# Altium footprint library MLACHQ_S.PCBLIB: 155 footprints (part 8 of 10)
Each footprint in its own frame and in the unit in brackets; x right, y up, seen from the top. Pads: shape width x height; smd on the part's side, far side on the other; paste and mask are expansions set on the pad; w line width, h text height; cw(c..) or ccw(c..) is an arc to the next point about the centre after c.
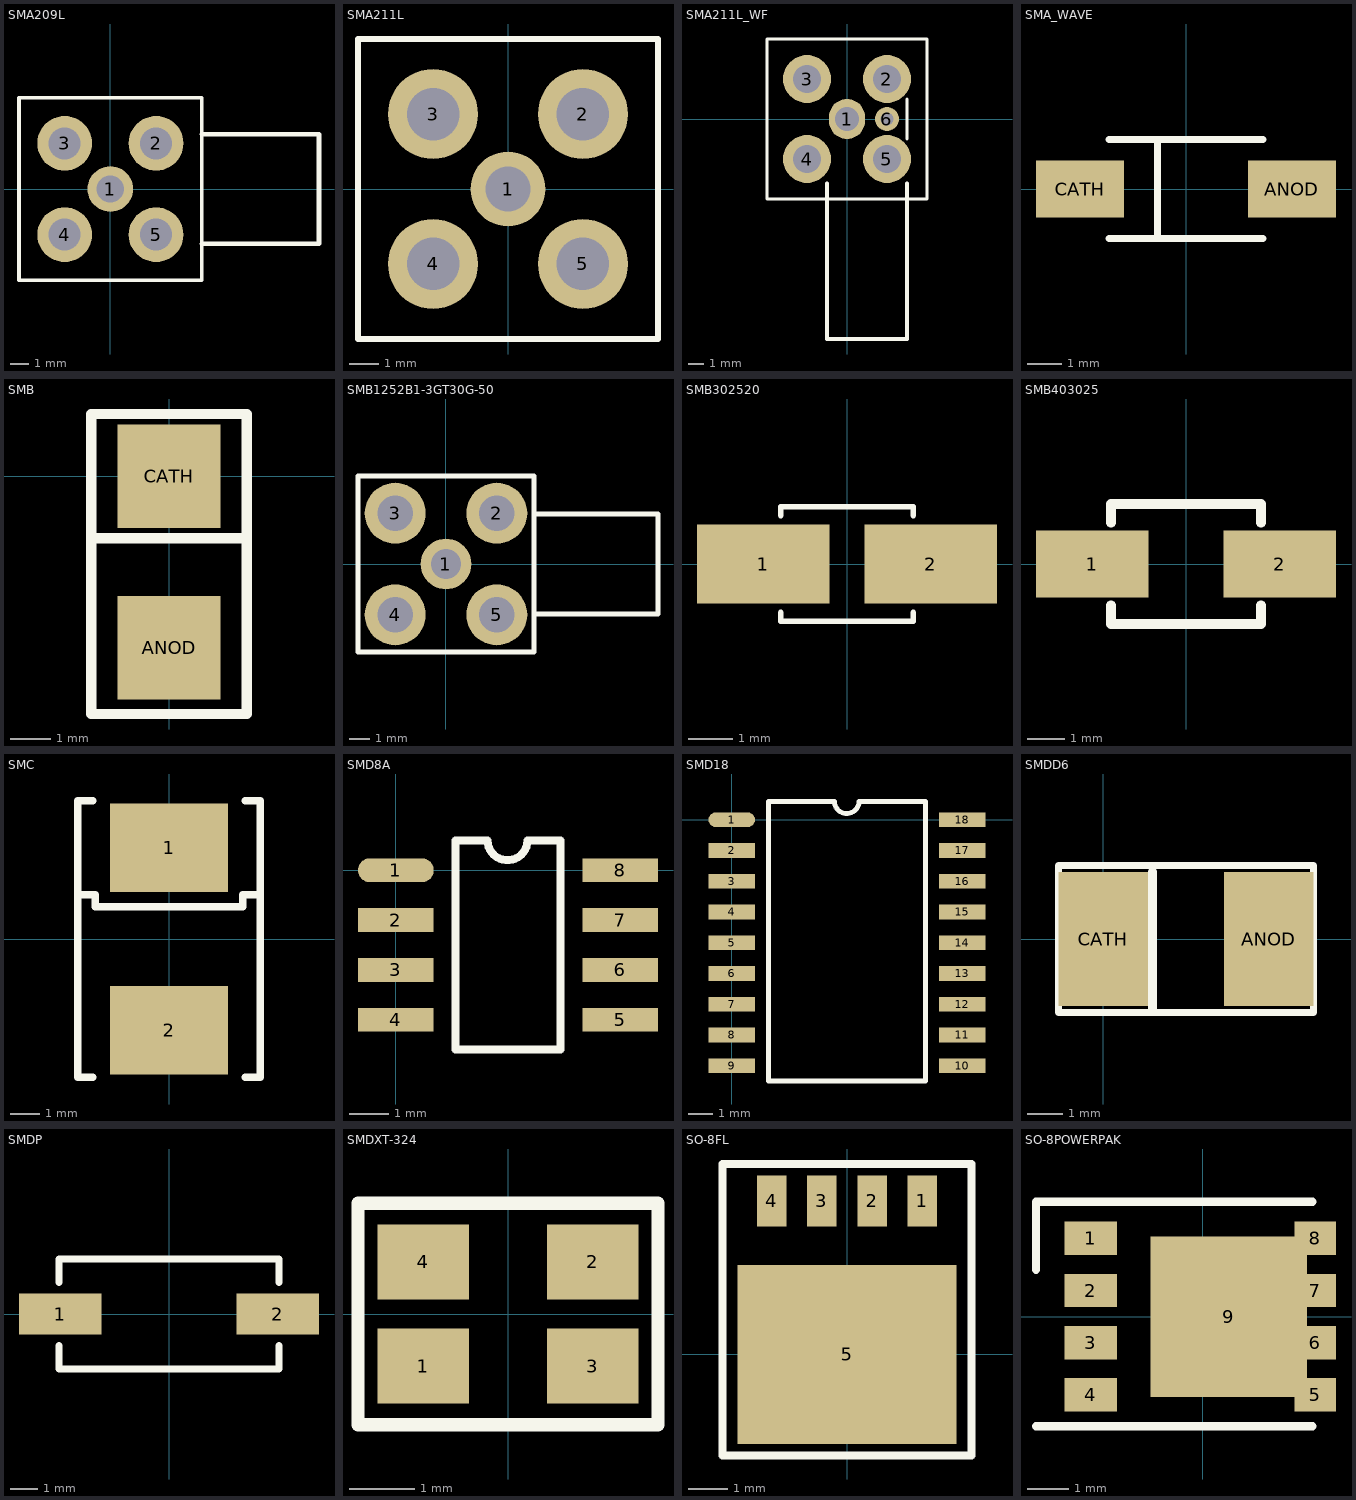
[diagram p7: the footprints below, top view; thin cyan lines are the x and y axes]

## SMA209L [mil]
pads (5):
  round 100 hole 60: 1(0,0)
  round 120 hole 70: 2(100,100) 3(-100,100) 4(-100,-100) 5(100,-100)
TopOverlay:
  lines w8: -200,-200 -200,200 200,200 200,-200 -200,-200
  lines w10: 200,-120 456.69,-120 456.69,120 200,120

## SMA211L [mil]
pads (5):
  round 100 hole 60: 1(0,0)
  round 120 hole 70: 2(100,100) 3(-100,100) 4(-100,-100) 5(100,-100)
TopOverlay:
  lines w8: -200,-200 -200,200 200,200 200,-200 -200,-200

## SMA211L_WF [mil]
pads (6):
  oval 90x100 hole 60: 1(0,0)
  round 120 hole 70: 2(100,100) 3(-100,100) 4(-100,-100) 5(100,-100)
  round 60 hole 32: 6(100,0)
TopOverlay:
  lines w8: 150,-50 150,50 ; -200,-200 200,-200 200,200 -200,200 -200,-200
  lines w10: -50,-161.42 -50,-550 149.61,-550 149.61,-161.42

## SMA_WAVE [mil]
pads (2):
  rect 100x65 smd: ANOD(120,0) CATH(-120,0)
TopOverlay:
  lines w8: -87.5,-56 87.5,-56 ; -87.5,56 87.5,56 ; -32.5,-56 -32.5,56
3D body: height 60.63, standoff 3.94, extent -100,-17 -86,17
3D body: height 60.63, standoff 3.94, extent 86,-17 100,17
3D body: height 100, standoff 3.94, extent -92,-56 92,56
3D body: height 100.39, standoff 3.94, extent -71.57,-55 -50.43,55

## SMB [mil]
pads (2):
  rect 100x100 smd: ANOD(0,-166) CATH(0,0)
TopOverlay:
  lines w10: -75,-60 75,-60 ; -75,-230 -75,60 75,60 75,-230 -75,-230
3D body: height 96.46, standoff 1.09, extent -76.77,-185.04 76.77,31.5

## SMB1252B1-3GT30G-50 [mil]
pads (5):
  round 100 hole 60: 1(0,0)
  round 120 hole 70: 2(100,100) 3(-100,100) 4(-100,-100) 5(100,-100)
TopOverlay:
  lines w9.84: 173.23,-98.43 417.32,-98.43 417.32,98.43 173.23,98.43 ; -173.23,-173.23 173.23,-173.23 173.23,173.23 -173.23,173.23 -173.23,-173.23
3D body: height 316.55, standoff 120.47, extent 0,-98.43 417.32,98.04
3D body: height 393.7, standoff 0, extent -137.8,-137.8 137.8,137.8

## SMB302520 [mm]
height 2
pads (2):
  rect 3x1.8 smd: 1(-1.9,0) 2(1.9,0)
TopOverlay:
  lines w0.127: -1.5,-1.1 -1.5,-1.3 1.5,-1.3 1.5,-1.1 ; -1.5,1.1 -1.5,1.3 1.5,1.3 1.5,1.1

## SMB403025 [mm]
pads (2):
  rect 3x1.8 smd: 1(-2.5,0) 2(2.5,0)
TopOverlay:
  lines w0.254: -2,-1.1 -2,-1.6 2,-1.6 2,-1.1 ; -2,1.1 -2,1.6 2,1.6 2,1.1

## SMC [mm]
pads (2):
  rect 4x3 smd: 1(0,3.1) 2(0,-3.1)
TopOverlay:
  lines w0.254: -3.1,1.5 -2.5,1.5 -2.5,1.1 2.5,1.1 2.5,1.5 3.1,1.5 ; -2.6,-4.7 -3.1,-4.7 -3.1,4.7 -2.6,4.7 ; 2.6,-4.7 3.1,-4.7 3.1,4.7 2.6,4.7
3D body: height 1.25, standoff 0, extent -1.5,-4 1.5,-3.5
3D body: height 1.25, standoff 0, extent -1.5,3.5 1.5,4
3D body: height 2.5, standoff 0, extent -3,2.25 3,2.7
3D body: height 2.45, standoff 0, extent -3.1,-3.5 3.1,3.5

## SMD8A [mil]
pads (8):
  oval 76x24 smd: 1(0,0)
  rect 76x24 smd: 2(0,-50) 3(0,-100) 4(0,-150) 5(225,-150) 6(225,-100) 7(225,-50) 8(225,0)
TopOverlay:
  lines w8: 60,-180 60,30 92,30 ccw(c112,30) 132,30 165,30 165,-180 60,-180

## SMD18 [mil]
pads (18):
  oval 76x24 smd: 1(0,0)
  rect 76x24 smd: 2(0,-50) 3(0,-100) 4(0,-150) 5(0,-200) 6(0,-250) 7(0,-300) 8(0,-350) 9(0,-400) 10(375,-400) 11(375,-350) 12(375,-300) 13(375,-250) 14(375,-200) 15(375,-150) 16(375,-100) 17(375,-50) 18(375,0)
TopOverlay:
  lines w8: 60,-425 60,30 167,30 ccw(c187,30) 207,30 315,30 315,-425 60,-425

## SMDD6 [mil]
pads (2):
  rect 100x150 smd: ANOD(185,0) CATH(0,0)
TopOverlay:
  lines w8: -50,-82 235,-82 235,82 -50,82 -50,-82
  lines w10: 55,-80 55,75

## SMDP [mm]
pads (2):
  rect 3x1.5 smd: 1(-3.95,0) 2(3.95,0)
TopOverlay:
  lines w0.254: -4,-1.15 -4,-2 4,-2 4,-1.15 ; -4,1.15 -4,2 4,2 4,1.15

## SMDXT-324 [mm]
pads (4):
  rect 1.4x1.15 smd: 1(-1.3,-0.8) 2(1.3,0.8) 3(1.3,-0.8) 4(-1.3,0.8)
TopOverlay:
  lines w0.203: -2.3,-1.7 2.3,-1.7 2.3,1.7 -2.3,1.7 -2.3,-1.7
3D body: height 0.7, standoff 0, extent -1.7,-1.35 1.7,1.3
3D body: height 0.75, standoff 0.6, extent -1.65,-1.3 1.65,1.25
3D body: height 0.8, standoff 0.7, extent -1.45,-1.15 1.45,1.1

## SO-8FL [mm]
pads (5):
  rect 0.75x1.3 smd: 1(1.905,3.88) 2(0.635,3.88) 3(-0.635,3.88) 4(-1.905,3.88)
  rect 5.55x4.53 smd paste+0: 5(0,0)
TopOverlay:
  lines w0.2: -3.15,-2.555 -3.15,4.815 3.15,4.815 3.15,-2.555 -3.15,-2.555
3D body: height 1, standoff 0, extent -2.455,-2.08 2.45,4.1
3D body: height 0.26, standoff 0, extent -2.23,4.1 -1.585,4.325
3D body: height 0.26, standoff 0, extent -0.96,4.1 -0.315,4.325
3D body: height 0.26, standoff 0, extent 0.31,4.1 0.955,4.325
3D body: height 0.26, standoff 0, extent 1.58,4.1 2.225,4.325
3D body: height 0.26, standoff 0, extent -2.675,1.127 -2.45,1.772
3D body: height 0.26, standoff 0, extent 2.45,1.132 2.675,1.777
3D body: height 0.26, standoff 0, extent -2.34,-2.307 -1.695,-2.08
3D body: height 0.26, standoff 0, extent 1.688,-2.305 2.333,-2.08

## SO-8POWERPAK [mil]
pads (9):
  rect 50x32 smd: 1(-107.5,75) 2(-107.5,25) 3(-107.5,-25) 4(-107.5,-75)
  rect 40x32 smd: 5(107.5,-75) 6(107.5,-25) 7(107.5,25) 8(107.5,75)
  rect 150x154 smd: 9(24.5,0)
TopOverlay:
  lines w7.87: -160,-105 105,-105 ; -160,45 -160,110 105,110
3D body: height 15.75, standoff 0, extent -125.98,-87.01 -120.08,-63.39
3D body: height 15.75, standoff 0, extent -125.98,-37.01 -120.08,-13.39
3D body: height 15.75, standoff 0, extent -125.98,12.99 -120.08,36.61
3D body: height 15.75, standoff 0, extent -125.98,62.99 -120.08,86.61
3D body: height 15.75, standoff 0, extent 120.08,-87.01 125.98,-63.39
3D body: height 15.75, standoff 0, extent 120.08,-37.01 125.98,-13.39
3D body: height 15.75, standoff 0, extent 120.08,12.99 125.98,36.61
3D body: height 16.14, standoff 0, extent -120.08,-102.36 120.08,102.36
3D body: height 15.75, standoff 0, extent 120.08,62.99 125.98,86.61